# EAGLE library part TOP242PN (library power_convertors)
Integrated Off-line Switcher - Extended power range to 22 W - Features eliminate or reduce cost of external components - Fully integrated soft-start for minimum stress/overshoot - Externally programmable accurate current limit - Wider duty cycle for more power, smaller input capacitor - Line under-voltage (UV) detection: no turn off glitches - Line overvoltage (OV) shutdown extends line surge limit - Line feed forward with maximum duty cycle (DCMAX) reduction rejects line ripple and limits DCMAX at high line - Frequency jittering reduces EMI and EMI filtering costs - Regulates to zero load without dummy loading - Half frequency option in Y/R packages for video applications - Hysteretic thermal shutdown for automatic fault recovery - Large thermal hysteresis prevents PC board overheating
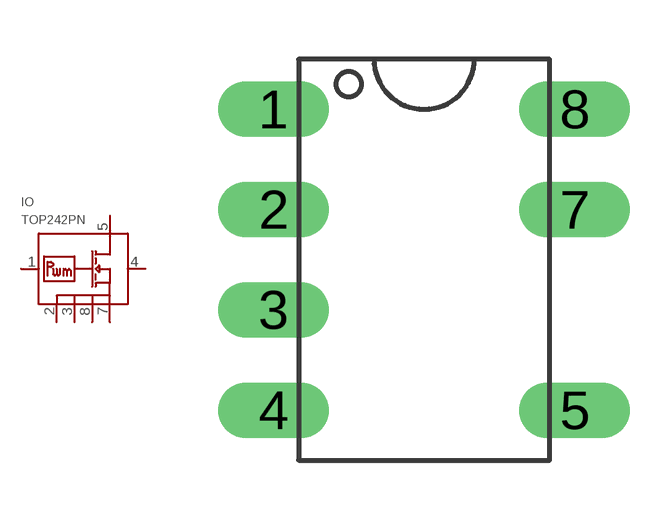
[diagram p6: symbol with the pads of DIL_8_N6; footprint DIL_8_N6]

Designator prefix IO

## TOP242PN  [DIL_8_N6]
1  M  pas
2  S0  pas
3  S1  pas
4  C  pas
5  D  pas
7  S3  pas
8  S2  pas

## Footprint DIL_8_N6 (pad centres in mm)
drill 0.9 long: 1 0,0; 2 0,-2.54; 3 0,-5.08; 4 0,-7.62; 5 7.62,-7.62; 7 7.62,-2.54; 8 7.62,0